# Altium footprint library Senior_PCB_Lib.PcbLib: 29 footprints (part 2 of 2)
Each footprint in its own frame and in the unit in brackets; x right, y up, seen from the top. Pads: shape width x height; smd on the part's side, far side on the other; paste and mask are expansions set on the pad; w line width, h text height; cw(c..) or ccw(c..) is an arc to the next point about the centre after c.
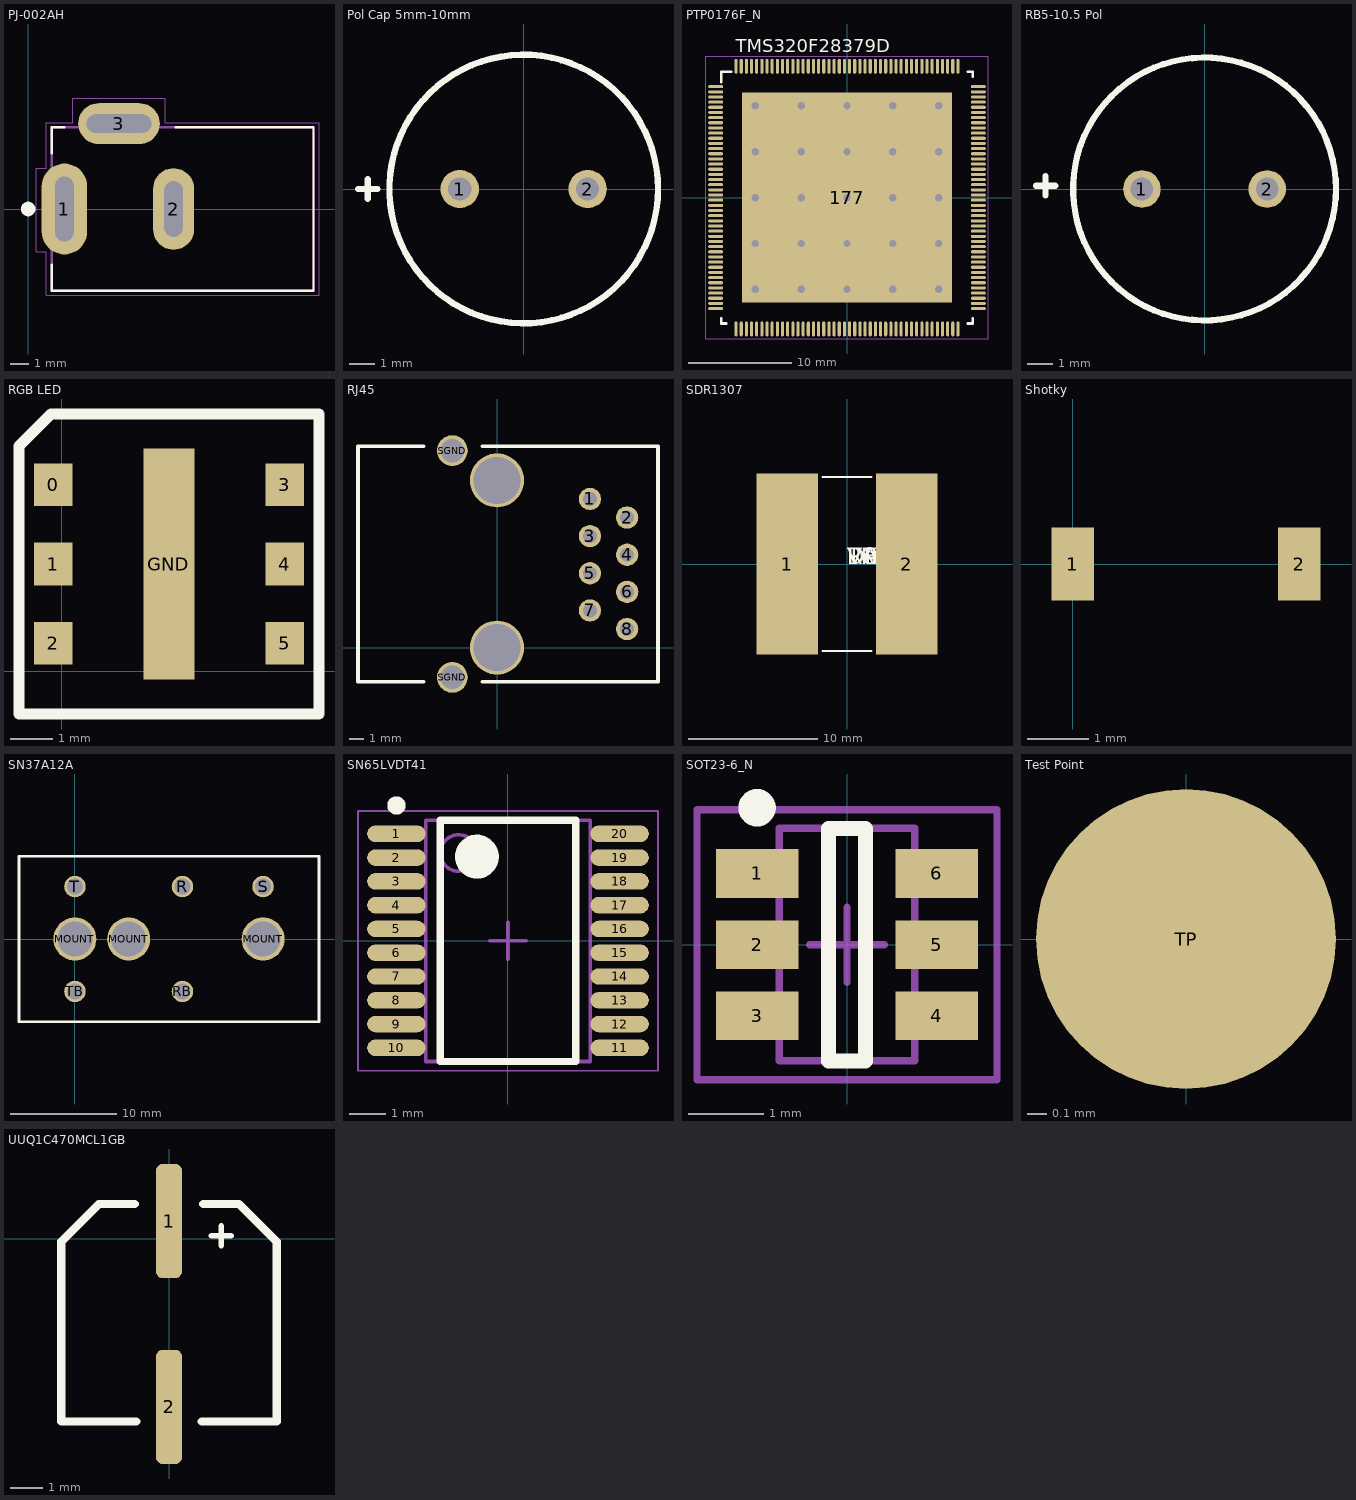
[diagram p1: the footprints below, top view; thin cyan lines are the x and y axes]

## PJ-002AH [mm] "PJ-002AH"
pads (3):
  oval 2.5x5 hole 1.016 slot 3.556 at 90 deg: 1(2,0)
  oval 2.25x4.5 hole 1.016 slot 3.048 at 90 deg: 2(8,0)
  oval 4.5x2.25 hole 1.016 slot 3.556 at 0 deg: 3(5,4.7)
Top Overlay:
  circle w0.4: c0,0 r0.2
  lines w0.127: 1.3,-3.048 1.3,-4.5 15.7,-4.5 15.7,4.5 8.128,4.5 ; 1.3,3.048 1.3,4.5 2,4.5
Mechanical 1:
  lines w0.127: 1.3,-4.5 15.7,-4.5 15.7,4.5 1.3,4.5 1.3,-4.5
Mechanical 4:
  lines w0: 1.5,-1.75 2.5,-1.75 2.5,1.75 1.5,1.75 1.5,-1.75 ; 3.5,4.2 3.5,5.2 6.5,5.2 6.5,4.2 3.5,4.2 ; 7.5,-1.5 8.5,-1.5 8.5,1.5 7.5,1.5 7.5,-1.5
  lines w0.05: 0.45,-2.35 0.45,2.25 1,2.25 1,4.75 2.45,4.75 2.45,6.1 7.55,6.1 7.55,4.75 16,4.75 16,-4.75 1,-4.75 1,-2.35 0.45,-2.35

## Pol Cap 5mm-10mm [mm]
pads (2):
  round 1.5 hole 0.9: 1(-2.5,0) 2(2.5,0)
Top Overlay:
  circle w0.25: c0,0 r5.25
  lines w0.254: -6.477,0 -5.715,0 ; -6.096,-0.381 -6.096,0.381
Mechanical 1:
  circle w0.02: c0,0 r5.25

## PTP0176F_N [mm]
pads (177):
  oval 1.45x0.3 smd paste+0 mask+0.051: 1(-12.725,10.75) 2(-12.725,10.25) 3(-12.725,9.75) 4(-12.725,9.25) 5(-12.725,8.75) 6(-12.725,8.25) 7(-12.725,7.75) 8(-12.725,7.25) 9(-12.725,6.75) 10(-12.725,6.25) 11(-12.725,5.75) 12(-12.725,5.25) 13(-12.725,4.75) 14(-12.725,4.25) 15(-12.725,3.75) 16(-12.725,3.25) 17(-12.725,2.75) 18(-12.725,2.25) 19(-12.725,1.75) 20(-12.725,1.25) 21(-12.725,0.75) 22(-12.725,0.25) 23(-12.725,-0.25) 24(-12.725,-0.75) 25(-12.725,-1.25) 26(-12.725,-1.75) 27(-12.725,-2.25) 28(-12.725,-2.75) 29(-12.725,-3.25) 30(-12.725,-3.75) 31(-12.725,-4.25) 32(-12.725,-4.75) 33(-12.725,-5.25) 34(-12.725,-5.75) 35(-12.725,-6.25) 36(-12.725,-6.75) 37(-12.725,-7.25) 38(-12.725,-7.75) 39(-12.725,-8.25) 40(-12.725,-8.75) 41(-12.725,-9.25) 42(-12.725,-9.75) 43(-12.725,-10.25) 44(-12.725,-10.75) 89(12.725,-10.75) 90(12.725,-10.25) 91(12.725,-9.75) 92(12.725,-9.25) 93(12.725,-8.75) 94(12.725,-8.25) 95(12.725,-7.75) 96(12.725,-7.25) 97(12.725,-6.75) 98(12.725,-6.25) 99(12.725,-5.75) 100(12.725,-5.25) 101(12.725,-4.75) 102(12.725,-4.25) 103(12.725,-3.75) 104(12.725,-3.25) 105(12.725,-2.75) 106(12.725,-2.25) 107(12.725,-1.75) 108(12.725,-1.25) 109(12.725,-0.75) 110(12.725,-0.25) 111(12.725,0.25) 112(12.725,0.75) 113(12.725,1.25) 114(12.725,1.75) 115(12.725,2.25) 116(12.725,2.75) 117(12.725,3.25) 118(12.725,3.75) 119(12.725,4.25) 120(12.725,4.75) 121(12.725,5.25) 122(12.725,5.75) 123(12.725,6.25) 124(12.725,6.75) 125(12.725,7.25) 126(12.725,7.75) 127(12.725,8.25) 128(12.725,8.75) 129(12.725,9.25) 130(12.725,9.75) 131(12.725,10.25) 132(12.725,10.75)
  oval 0.3x1.45 smd paste+0 mask+0.051: 45(-10.75,-12.725) 46(-10.25,-12.725) 47(-9.75,-12.725) 48(-9.25,-12.725) 49(-8.75,-12.725) 50(-8.25,-12.725) 51(-7.75,-12.725) 52(-7.25,-12.725) 53(-6.75,-12.725) 54(-6.25,-12.725) 55(-5.75,-12.725) 56(-5.25,-12.725) 57(-4.75,-12.725) 58(-4.25,-12.725) 59(-3.75,-12.725) 60(-3.25,-12.725) 61(-2.75,-12.725) 62(-2.25,-12.725) 63(-1.75,-12.725) 64(-1.25,-12.725) 65(-0.75,-12.725) 66(-0.25,-12.725) 67(0.25,-12.725) 68(0.75,-12.725) 69(1.25,-12.725) 70(1.75,-12.725) 71(2.25,-12.725) 72(2.75,-12.725) 73(3.25,-12.725) 74(3.75,-12.725) 75(4.25,-12.725) 76(4.75,-12.725) 77(5.25,-12.725) 78(5.75,-12.725) 79(6.25,-12.725) 80(6.75,-12.725) 81(7.25,-12.725) 82(7.75,-12.725) 83(8.25,-12.725) 84(8.75,-12.725) 85(9.25,-12.725) 86(9.75,-12.725) 87(10.25,-12.725) 88(10.75,-12.725) 133(10.75,12.725) 134(10.25,12.725) 135(9.75,12.725) 136(9.25,12.725) 137(8.75,12.725) 138(8.25,12.725) 139(7.75,12.725) 140(7.25,12.725) 141(6.75,12.725) 142(6.25,12.725) 143(5.75,12.725) 144(5.25,12.725) 145(4.75,12.725) 146(4.25,12.725) 147(3.75,12.725) 148(3.25,12.725) 149(2.75,12.725) 150(2.25,12.725) 151(1.75,12.725) 152(1.25,12.725) 153(0.75,12.725) 154(0.25,12.725) 155(-0.25,12.725) 156(-0.75,12.725) 157(-1.25,12.725) 158(-1.75,12.725) 159(-2.25,12.725) 160(-2.75,12.725) 161(-3.25,12.725) 162(-3.75,12.725) 163(-4.25,12.725) 164(-4.75,12.725) 165(-5.25,12.725) 166(-5.75,12.725) 167(-6.25,12.725) 168(-6.75,12.725) 169(-7.25,12.725) 170(-7.75,12.725) 171(-8.25,12.725) 172(-8.75,12.725) 173(-9.25,12.725) 174(-9.75,12.725) 175(-10.25,12.725) 176(-10.75,12.725)
  rect 20.32x20.32 smd paste-10.987 mask+0.051: 177(0,0)
via 4.445,-8.89 diameter 1.27 hole 0.711
via -4.445,-8.89 diameter 1.27 hole 0.711
via -4.445,0 diameter 1.27 hole 0.711
via 4.445,0 diameter 1.27 hole 0.711
via 4.445,8.89 diameter 1.27 hole 0.711
via -4.445,8.89 diameter 1.27 hole 0.711
via -8.89,8.89 diameter 1.27 hole 0.711
via -8.89,4.445 diameter 1.27 hole 0.711
via -4.445,4.445 diameter 1.27 hole 0.711
via 0,8.89 diameter 1.27 hole 0.711
via 0,4.445 diameter 1.27 hole 0.711
via 4.445,4.445 diameter 1.27 hole 0.711
via 8.89,8.89 diameter 1.27 hole 0.711
via 8.89,4.445 diameter 1.27 hole 0.711
via 8.89,0 diameter 1.27 hole 0.711
via 8.89,-4.445 diameter 1.27 hole 0.711
via 8.89,-8.89 diameter 1.27 hole 0.711
via 4.445,-4.445 diameter 1.27 hole 0.711
via 0,0 diameter 1.27 hole 0.711
via -8.89,0 diameter 1.27 hole 0.711
via -8.89,-4.445 diameter 1.27 hole 0.711
via -8.89,-8.89 diameter 1.27 hole 0.711
via 0,-8.89 diameter 1.27 hole 0.711
via 0,-4.445 diameter 1.27 hole 0.711
via -4.445,-4.445 diameter 1.27 hole 0.711
Top Overlay:
  lines w0.254: -12.2,-11.7 -12.2,-12.2 -11.7,-12.2 ; -12.2,11.2 -12.2,12.2 -11.2,12.2 ; 11.7,-12.2 12.2,-12.2 12.2,-11.7 ; 11.7,12.2 12.2,12.2 12.2,11.7
  text "TMS320F28379D" at -10.795,14.097 h1.27
Top Paste:
  region: -3.65,4.035 -3.65,-4.035 3.655,-4.035 3.655,4.035
Mechanical 15:
  lines w0.05: -13.7,-13.7 13.7,-13.7 13.7,13.7 -13.7,13.7 -13.7,-13.7
  lines w0.1: -0.5,0 0.5,0 ; 0,-0.5 0,0.5
3D body: height 0.25, standoff 0, extent 0,0 0.254,0.254

## RB5-10.5 Pol [mm]
pads (2):
  round 1.5 hole 0.9: 1(-2.5,0) 2(2.5,0)
Top Overlay:
  circle w0.25: c0,0 r5.25
  lines w0.254: -6.731,0.127 -5.969,0.127 ; -6.35,-0.254 -6.35,0.508
Mechanical 1:
  circle w0.02: c0,0 r5.25

## RGB LED [mm] "APA102C - 6-Pin SMT RGB LED"
height 1.4
pads (7):
  rect 0.9x1 smd: 0(-0.2,4.35) 1(-0.2,2.5) 2(-0.2,0.65) 3(5.2,4.35) 4(5.2,2.5) 5(5.2,0.65)
  rect 1.2x5.4 smd: GND(2.5,2.5)
Top Overlay:
  lines w0.254: -1,-1 6,-1 6,6 -0.25,6 -1,5.25 -1,-1
3D body: height 0.25, standoff 0, extent 0,0 0,0
3D body: height 1.4, standoff 0, extent 0,0 5,5

## RJ45 [mm] "Ethernet/Cat5e 8p8c"
height 13.2
pads (12):
  round 1.524 hole 0.95: 1(6.35,10.16) 2(8.89,8.89) 3(6.35,7.62) 4(8.89,6.35) 5(6.35,5.08) 6(8.89,3.81) 7(6.35,2.54) 8(8.89,1.27)
  round 2.1 hole 1.6: SGND(-3.05,-2.035) SGND(-3.05,13.465)
  round 3.7 hole 3.2: ""(0,0) ""(0,11.43)
Top Overlay:
  lines w0.254: -5,-2.335 -9.5,-2.335 -9.5,13.765 -5,13.765 ; -1,-2.335 11,-2.335 11,13.765 -1,13.765

## SDR1307 [mil]
pads (2):
  rect 187x551 smd: 1(-182,0) 2(182,0)
Top Overlay:
  lines w6: -75.4,-266 75.4,-266 ; -75.4,266 75.4,266
  text "RefDes" at 0,0 h50
  text "DEV" at 0,0 h50
  text "PN" at 0,0 h50
  text "DEV" at 0,0 h50
  text "VAL" at 0,0 h50
  text "TOL" at 0,0 h50
3D body "SDR1307.stp": height 300, standoff 0, extent -278,-266 278,266

## Shotky [mm]
pads (2):
  rect 0.7x1.2 smd: 1(0,0) 2(3.7,0)

## SN37A12A [mil]
pads (8):
  round 160 hole 130: MOUNT(0,0) MOUNT(200,0) MOUNT(700,0)
  round 80 hole 60: R(400,195) RB(400,-195) S(700,195) T(0,195) TB(0,-195)
Top Overlay:
  lines w10: -208,-308 908,-308 908,308 -208,308 -208,-308

## SN65LVDT41 [mm] "TSOP, 20-Leads, Body 6.50x4.40mm, Pitch 0.65mm, IPC Medium Density"
height 1.2
pads (20):
  oval 1.6x0.45 smd: 1(-3.05,2.925) 2(-3.05,2.275) 3(-3.05,1.625) 4(-3.05,0.975) 5(-3.05,0.325) 6(-3.05,-0.325) 7(-3.05,-0.975) 8(-3.05,-1.625) 9(-3.05,-2.275) 10(-3.05,-2.925) 11(3.05,-2.925) 12(3.05,-2.275) 13(3.05,-1.625) 14(3.05,-0.975) 15(3.05,-0.325) 16(3.05,0.325) 17(3.05,0.975) 18(3.05,1.625) 19(3.05,2.275) 20(3.05,2.925)
Top Overlay:
  circle w0.6: c-0.85,2.3 r0.3
  circle w0.25: c-3.05,3.7 r0.125
  lines w0.2: -1.85,-3.3 1.85,-3.3 1.85,3.3 -1.85,3.3 -1.85,-3.3
Mechanical 13:
  circle w0.1: c-1.35,2.4 r0.5
  lines w0.1: -2.25,-3.3 2.25,-3.3 2.25,3.3 -2.25,3.3 -2.25,-3.3
Mechanical 15:
  lines w0.05: -4.1,-3.55 4.1,-3.55 4.1,3.55 -4.1,3.55 -4.1,-3.55
  lines w0.1: -0.5,0 0.5,0 ; 0,-0.5 0,0.5
3D body: height 1.2, standoff 0.05, extent -2.25,-3.3 2.25,3.3

## SOT23-6_N [mm]
pads (6):
  rect 1.1x0.65 smd: 1(-1.2,0.95) 2(-1.2,0) 3(-1.2,-0.95) 4(1.2,-0.95) 5(1.2,0) 6(1.2,0.95)
Top Overlay:
  circle w0.25: c-1.2,1.825 r0.125
  lines w0.2: -0.25,-1.55 0.25,-1.55 0.25,1.55 -0.25,1.55 -0.25,-1.55
Mechanical 13:
  lines w0.1: -0.9,-1.55 -0.9,1.55 0.9,1.55 0.9,-1.55 -0.9,-1.55
Mechanical 15:
  lines w0.1: -0.5,0 0.5,0 ; 0,-0.5 0,0.5 ; -2,-1.8 -2,1.8 2,1.8 2,-1.8 -2,-1.8
3D body: height 1.45, standoff 0, extent -0.9,-1.55 0.9,1.55

## Test Point [mil]
pads (1):
  round 60 smd: TP(0,0)

## UUQ1C470MCL1GB [mm]
pads (2):
  rrect50% 0.8x3.5 smd: 1(0,0.55) 2(0,-5.15)
Top Overlay:
  lines w0.178: 1.3,0.1 1.9,0.1 ; 1.6,-0.2 1.6,0.4
  lines w0.254: -3.3,-5.6 -3.3,-0.075 -2.15,1.075 -1.05,1.075 ; -3.25,-5.6 -1,-5.6 ; 1,-5.6 3.25,-5.6 ; 1.05,1.075 2.15,1.075 3.3,-0.075 3.3,-5.6